# Altium schematic symbol library tps51386rjnr.SchLib: 1 symbol
Pins are listed as number, name and electrical type; pins without a type are passive.

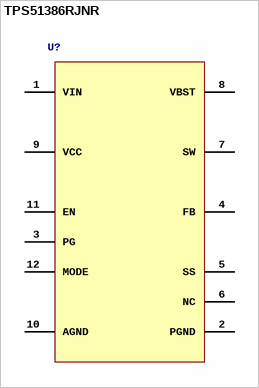
[diagram p0: symbol TPS51386RJNR]

## TPS51386RJNR
designator U?
Buck Switching Regulator IC Positive Adjustable 0.6V 1 Output 8A 12-PowerVFQFN
pins: 1 VIN, 2 PGND, 3 PG, 4 FB, 5 SS, 6 NC, 7 SW, 8 VBST, 9 VCC, 10 AGND, 11 EN, 12 MODE